# EAGLE library part SN74LVC8T245PW (library untitled)
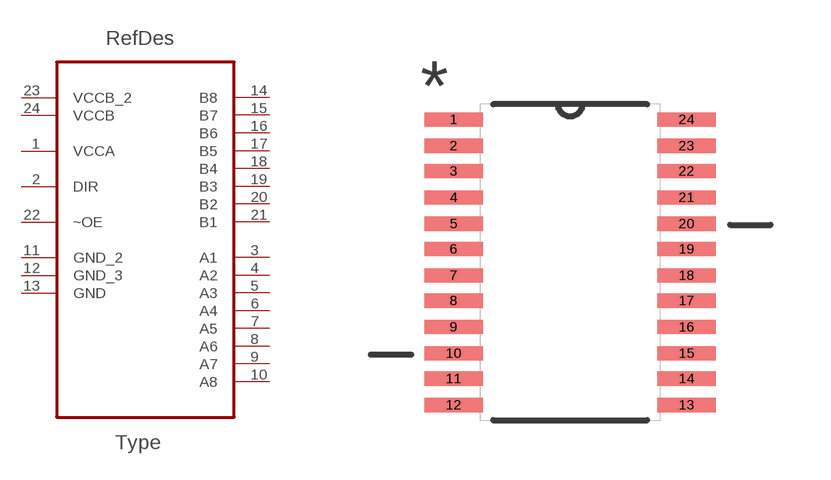
[diagram p0: symbol with the pads of SOP65P640X120-24N; footprint SOP65P640X120-24N]

Designator prefix U

## SN74LVC8T245PW (DESCRIPTION: 8-BIT DUAL-SUPPLY BUS TRANSCEIVER WITH CONFIGURABLE VOLTAGE TRANSLATION AND 3-STATE OUTPUTS; MPN: SN74LVC8T245PW; OC_FARNELL: 1236407; OC_NEWARK: 58K6537; PACKAGE: TSSOP-24; SUPPLIER: Texas Instruments)  [SOP65P640X120-24N]
1  VCCA  pwr
2  DIR  in
3  A1
4  A2
5  A3
6  A4
7  A5
8  A6
9  A7
10  A8
11  GND_2  pas
12  GND_3  pas
13  GND  pas
14  B8
15  B7
16  B6
17  B5
18  B4
19  B3
20  B2
21  B1
22  ~OE  in
23  VCCB_2  pwr
24  VCCB  pwr

## Footprint SOP65P640X120-24N (pad centres in mm)
smd 1.473 x 0.356: 1 -2.921,3.581; 2 -2.921,2.921; 3 -2.921,2.286; 4 -2.921,1.626; 5 -2.921,0.965; 6 -2.921,0.33; 7 -2.921,-0.33; 8 -2.921,-0.965; 9 -2.921,-1.626; 10 -2.921,-2.286; 11 -2.921,-2.921; 12 -2.921,-3.581; 13 2.921,-3.581; 14 2.921,-2.921; 15 2.921,-2.286; 16 2.921,-1.626; 17 2.921,-0.965; 18 2.921,-0.33; 19 2.921,0.33; 20 2.921,0.965; 21 2.921,1.626; 22 2.921,2.286; 23 2.921,2.921; 24 2.921,3.581